# EAGLE library part TPS54233-Q1 (library ti)
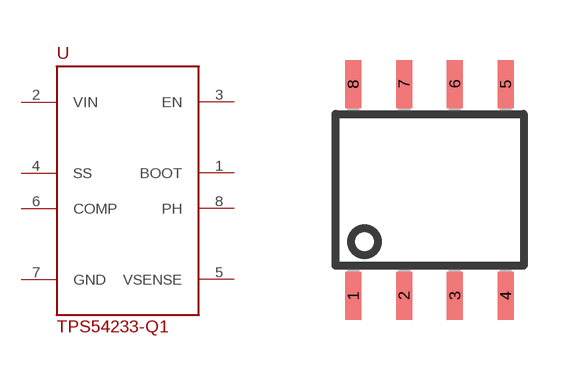
[diagram p1: symbol with the pads of D_R-PDSO-G08; footprint D_R-PDSO-G08]

Designator prefix U

## TPS54233-Q1  [D_R-PDSO-G08]
1  BOOT
2  VIN
3  EN
4  SS
5  VSENSE
6  COMP
7  GND
8  PH

## Footprint D_R-PDSO-G08 (pad centres in mm)
PLASTIC SMALL-OUTLINE PACKAGE SO 14 JEDEC MS-012, D Type Source: www.ti.com/.. slvs087l.pdf
smd 0.4 x 1.2: 1 -1.905,-2.65; 2 -0.635,-2.65; 3 0.635,-2.65; 4 1.905,-2.65; 5 1.905,2.65; 6 0.635,2.65; 7 -0.635,2.65; 8 -1.905,2.65